# Altium footprint library Brownbear_Audio.PcbLib: 1 footprints
Each footprint in its own frame and in the unit in brackets; x right, y up, seen from the top. Pads: shape width x height; smd on the part's side, far side on the other; paste and mask are expansions set on the pad; w line width, h text height; cw(c..) or ccw(c..) is an arc to the next point about the centre after c.
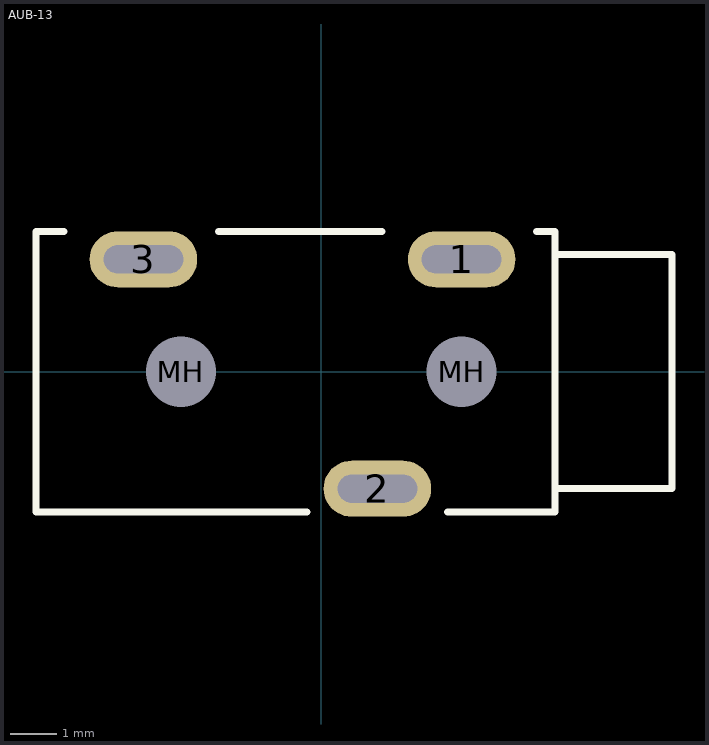
[diagram p0: the footprint, top view; thin cyan lines are the x and y axes]

## AUB-13 [mm] "Audio jack 3.5mm stereo"
pads (5):
  oval 2.3x1.2 hole 0.6 slot 1.7 at 0 deg mask+0.075: 1(3,2.4) 2(1.2,-2.5) 3(-3.8,2.4)
  round 1 hole 1.5 mask+0.075: MH(-3,0) MH(3,0)
Top Overlay:
  lines w0.15: -5.5,3 -6.1,3 -6.1,-3 -0.3,-3 ; -2.2,3 1.3,3 ; 2.7,-3 5,-3 5,-2.5 ; 4.6,3 5,3 5,2.5 ; 5,-2.5 7.5,-2.5 7.5,2.5 5,2.5 ; 5,-2.5 5,2.5
3D body "AUB-13.STEP": height 5.1, standoff -1.9, extent -6.5,-3 7.5,3